# Altium schematic symbol library AL8860MP-13.SchLib: 1 symbol
Pins are listed as number, name and electrical type; pins without a type are passive.

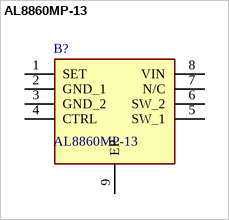
[diagram p0: symbol AL8860MP-13]

## AL8860MP-13
designator B?
LED Lighting Drivers LED MV Int Switch; Manufacturer_Name: Diodes Incorporated; Geometry.Height: 1.1mm; Manufacturer_Part_Number: AL8860MP-13; Mouser Part Number: 621-AL8860MP-13; Mouser Price/Stock: https://www.mouser.co.uk/ProductDetail/Diodes-Incorporated/AL8860MP-13?qs=4i%252Bwv%252B9cc4kIG8OqmNMtAA%3D%3D; Arrow Part Number: AL8860MP-13; Arrow Price/Stock: https://www.arrow.com/en/products/al8860mp-13/diodes-incorporated?region=nac; Datasheet Link: https://componentsearchengine.com/Datasheets/1/AL8860MP-13.pdf
footprint SOP65P490X110-9N
pins: 1 SET, 2 GND_1, 3 GND_2, 4 CTRL, 5 SW_1, 6 SW_2, 7 N/C, 8 VIN (power), 9 EP